# Altium footprint library HardWare.PcbLib: 173 footprints (part 8 of 11)
Each footprint in its own frame and in the unit in brackets; x right, y up, seen from the top. Pads: shape width x height; smd on the part's side, far side on the other; paste and mask are expansions set on the pad; w line width, h text height; cw(c..) or ccw(c..) is an arc to the next point about the centre after c.
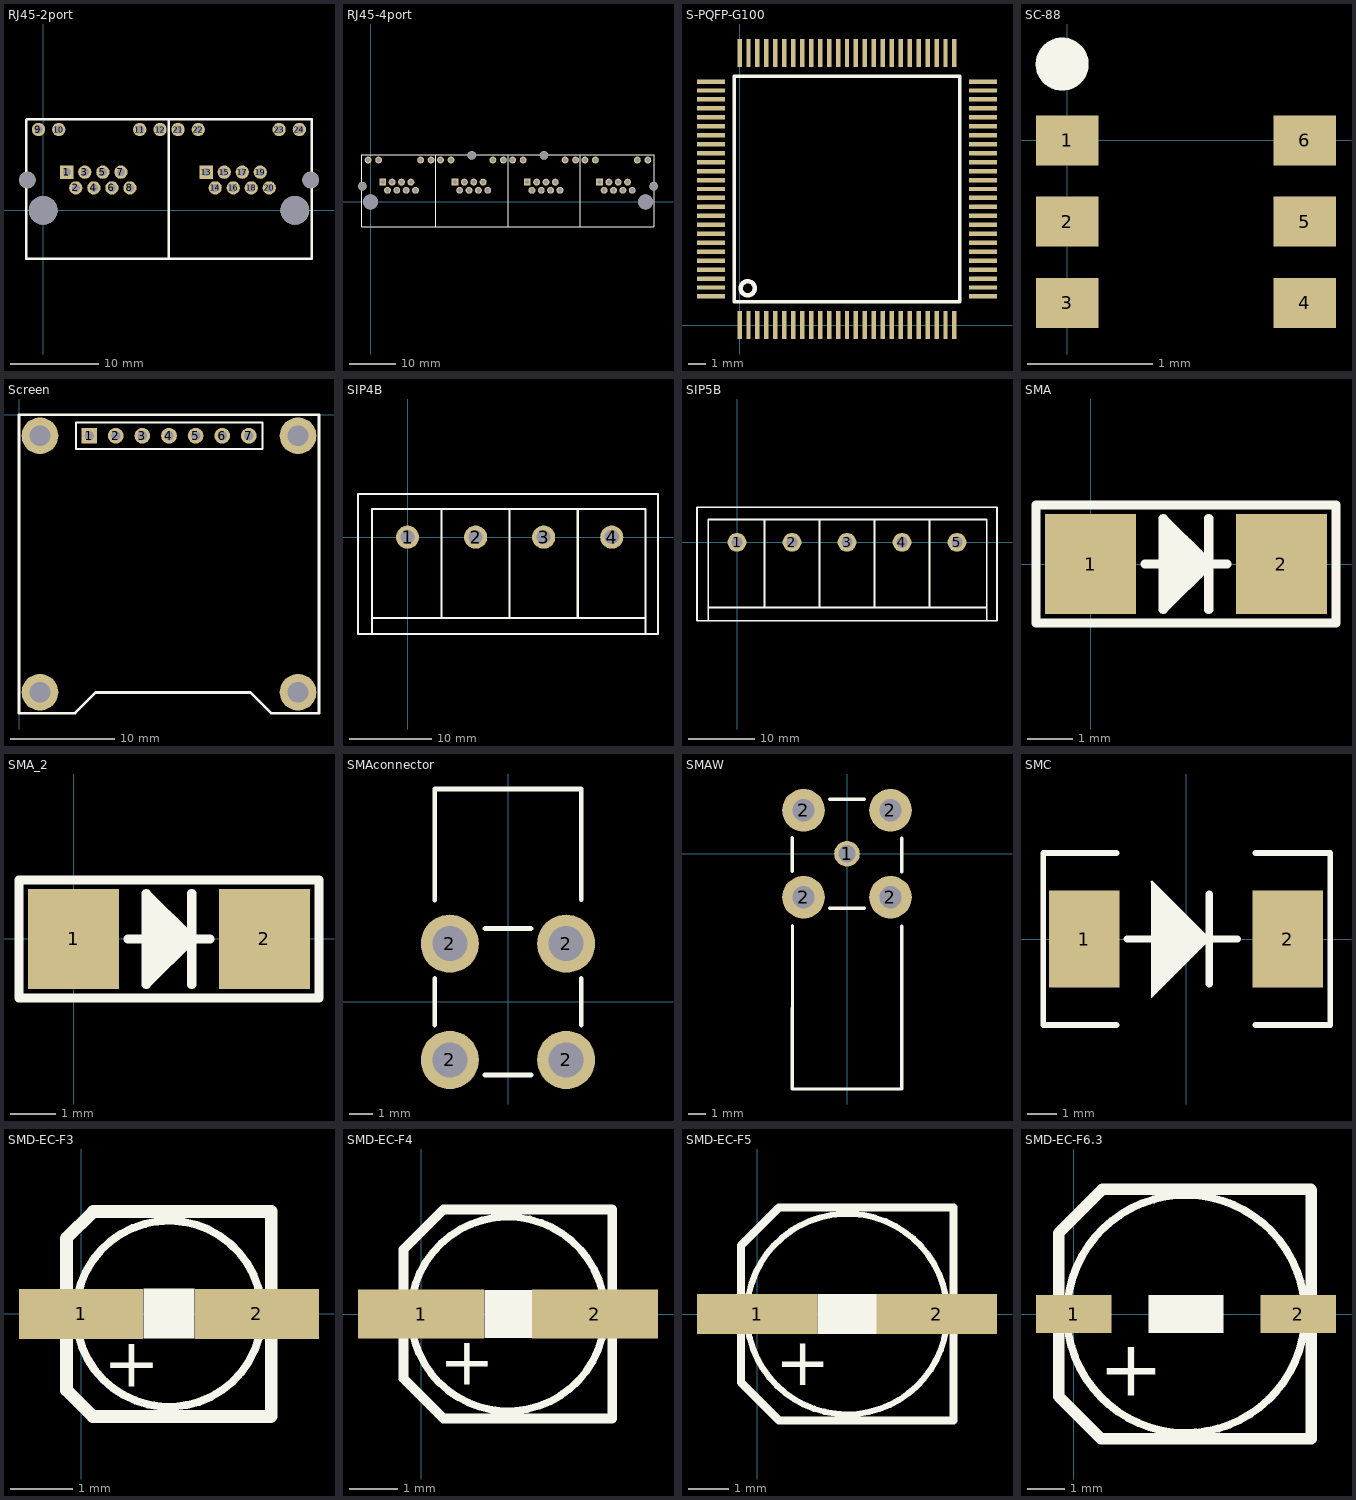
[diagram p7: the footprints below, top view; thin cyan lines are the x and y axes]

## RJ45-2port [mm]
pads (28):
  rect 1.5x1.5 hole 0.9: 1(2.671,4.32) 13(18.427,4.32)
  round 1.5 hole 0.9: 2(3.691,2.54) 3(4.711,4.32) 4(5.731,2.54) 5(6.751,4.32) 6(7.771,2.54) 7(8.791,4.32) 8(9.811,2.54) 9(-0.529,9.14) 10(1.761,9.14) 11(10.926,9.14) 12(13.216,9.14) 14(19.447,2.54) 15(20.467,4.32) 16(21.487,2.54) 17(22.507,4.32) 18(23.527,2.54) 19(24.547,4.32) 20(25.567,2.54) 21(15.246,9.14) 22(17.536,9.14) 23(26.676,9.14) 24(28.966,9.14)
  round 1.9 hole 1.8: ""(-1.78,3.43) ""(30.236,3.43)
  round 3.26 hole 3.25: ""(0,0) ""(28.456,0)
Top Overlay:
  lines w0.254: -1.653,4.193 -1.647,4.193 ; 14.203,-5.46 14.203,10.262 ; -1.905,-5.46 30.361,-5.46 30.361,10.29 -1.88,10.29 -1.905,10.265 -1.905,-5.46

## RJ45-4port [mm]
pads (54):
  rect 1.5x1.5 hole 0.9: 1(2.671,4.32) 13(18.421,4.32) 25(34.171,4.32) 37(49.921,4.32)
  round 1.5 hole 0.9: 2(3.691,2.54) 3(4.711,4.32) 4(5.731,2.54) 5(6.751,4.32) 6(7.771,2.54) 7(8.791,4.32) 8(9.811,2.54) 9(-0.529,9.14) 10(1.761,9.14) 11(10.926,9.14) 12(13.216,9.14) 14(19.441,2.54) 15(20.461,4.32) 16(21.481,2.54) 17(22.501,4.32) 18(23.521,2.54) 19(24.541,4.32) 20(25.561,2.54) 21(15.246,9.14) 22(17.536,9.14) 23(26.676,9.14) 24(28.966,9.14) 26(35.191,2.54) 27(36.211,4.32) 28(37.231,2.54) 29(38.251,4.32) 30(39.271,2.54) 31(40.291,4.32) 32(41.311,2.54) 33(30.992,9.14) 34(33.282,9.14) 35(42.422,9.14) 36(44.712,9.14) 38(50.941,2.54) 39(51.961,4.32) 40(52.981,2.54) 41(54.001,4.32) 42(55.021,2.54) 43(56.041,4.32) 44(57.061,2.54) 45(46.74,9.14) 46(49.03,9.14) 47(58.17,9.14) 48(60.46,9.14)
  round 1.9 hole 1.7: ""(-1.78,3.43) ""(22.07,10.16) ""(37.82,10.16) ""(61.73,3.43)
  round 3.26 hole 3.25: ""(0,0) ""(59.95,0)
Top Overlay:
  lines w0.254: -1.653,4.193 -1.647,4.193 ; 14.203,-5.46 14.203,10.262 ; 29.975,-5.46 29.975,10.236 ; 45.699,-5.46 45.699,10.29 ; 61.798,-5.46 -1.905,-5.46 -1.905,10.265 -1.88,10.29 61.798,10.29 ; 61.855,-5.46 61.855,10.29

## S-PQFP-G100 [mm] "MSP430F5438A"
pads (100):
  rect 0.25x1.55 smd: 1(0,0) 2(0.5,0) 3(1,0) 4(1.5,0) 5(2,0) 6(2.5,0) 7(3,0) 8(3.5,0) 9(4,0) 10(4.5,0) 11(5,0) 12(5.5,0) 13(6,0) 14(6.5,0) 15(7,0) 16(7.5,0) 17(8,0) 18(8.5,0) 19(9,0) 20(9.5,0) 21(10,0) 22(10.5,0) 23(11,0) 24(11.5,0) 25(12,0) 51(12,15.2) 52(11.5,15.2) 53(11,15.2) 54(10.5,15.2) 55(10,15.2) 56(9.5,15.2) 57(9,15.2) 58(8.5,15.2) 59(8,15.2) 60(7.5,15.2) 61(7,15.2) 62(6.5,15.2) 63(6,15.2) 64(5.5,15.2) 65(5,15.2) 66(4.5,15.2) 67(4,15.2) 68(3.5,15.2) 69(3,15.2) 70(2.5,15.2) 71(2,15.2) 72(1.5,15.2) 73(1,15.2) 74(0.5,15.2) 75(0,15.2)
  rect 1.55x0.25 smd: 26(13.6,1.6) 27(13.6,2.1) 28(13.6,2.6) 29(13.6,3.1) 30(13.6,3.6) 31(13.6,4.1) 32(13.6,4.6) 33(13.6,5.1) 34(13.6,5.6) 35(13.6,6.1) 36(13.6,6.6) 37(13.6,7.1) 38(13.6,7.6) 39(13.6,8.1) 40(13.6,8.6) 41(13.6,9.1) 42(13.6,9.6) 43(13.6,10.1) 44(13.6,10.6) 45(13.6,11.1) 46(13.6,11.6) 47(13.6,12.1) 48(13.6,12.6) 49(13.6,13.1) 50(13.6,13.6) 76(-1.6,13.6) 77(-1.6,13.1) 78(-1.6,12.6) 79(-1.6,12.1) 80(-1.6,11.6) 81(-1.6,11.1) 82(-1.6,10.6) 83(-1.6,10.1) 84(-1.6,9.6) 85(-1.6,9.1) 86(-1.6,8.6) 87(-1.6,8.1) 88(-1.6,7.6) 89(-1.6,7.1) 90(-1.6,6.6) 91(-1.6,6.1) 92(-1.6,5.6) 93(-1.6,5.1) 94(-1.6,4.6) 95(-1.6,4.1) 96(-1.6,3.6) 97(-1.6,3.1) 98(-1.6,2.6) 99(-1.6,2.1) 100(-1.6,1.6)
Top Overlay:
  lines w0.2: -0.29,1.31 12.29,1.31 12.29,13.89 -0.29,13.89 -0.29,1.31
  lines w0.254: 0.845,2.131 ccw(c0.457,2.057) 0.852,2.057

## SC-88 [mm]
pads (6):
  rect 0.5x0.4 smd: 1(0,0) 2(0,-0.65) 3(0,-1.3) 4(1.9,-1.3) 5(1.9,-0.65) 6(1.9,0)
Top Overlay:
  lines w0.1: -0.203,0.61 ccw(c-0.041,0.61) 0.122,0.61 ccw(c-0.041,0.61) -0.203,0.61
  lines w0.254: -0.066,0.61 ccw(c-0.041,0.61) -0.062,0.624

## Screen [mm] "0.96 inch"
pads (11):
  rect 1.5x1.5 hole 0.9: 1(6.7,-2)
  round 1.5 hole 0.9: 2(9.24,-2) 3(11.78,-2) 4(14.32,-2) 5(16.86,-2) 6(19.4,-2) 7(21.94,-2)
  round 3.5 hole 2: ""(2,-26.49) ""(2,-2) ""(26.64,-26.49) ""(26.64,-2)
Top Overlay:
  lines w0.2: 5.43,-3.27 23.261,-3.27 23.261,-0.73 5.43,-0.73 5.43,-3.27
  lines w0.254: 0,-0.025 0,-28.49 5.342,-28.49 7.315,-26.518 22.098,-26.518 24.071,-28.49 28.64,-28.49 28.64,0 0,0

## SIP4B [mm]
height 1.75
pads (4):
  round 2.8 hole 1.7: 1(0,0) 2(8.25,0) 3(16.5,0) 4(24.75,0)
Top Overlay:
  lines w0.254: -4.318,-11.75 -4.318,3.429 28.829,3.429 28.829,-11.75 ; -4.318,-9.779 28.829,-9.779 ; 4.125,-9.779 4.125,3.429 ; 12.375,-9.652 12.375,3.429 ; 20.625,-9.779 20.625,3.429 ; -6,-11.75 30.353,-11.75 30.353,5.25 -6,5.25 -6,-11.75

## SIP5B [mm] "大电流接线端子"
height 1.75
pads (5):
  round 2.8 hole 1.7: 1(0,0) 2(8.25,0) 3(16.5,0) 4(24.75,0) 5(33,0)
Top Overlay:
  lines w0.254: -4.318,-11.75 -4.318,3.429 37.465,3.429 37.465,-11.75 ; -4.318,-9.779 37.465,-9.779 ; 4.125,-9.779 4.125,3.429 ; 12.375,-9.652 12.375,3.429 ; 20.625,-9.779 20.625,3.429 ; 28.875,-9.652 28.875,3.429 ; -6,-11.75 39,-11.75 39,5.25 -6,5.25 -6,-11.75

## SMA [mm]
height 1.75
pads (2):
  rect 2x2.2 smd: 1(0,0) 2(4.2,0)
Top Overlay:
  rectangle: 2.061,-0.381 2.219,0.3
  rectangle: 1.827,-0.567 2.033,0.6
  rectangle: 1.601,-0.777 1.823,0.801
  lines w0.2: 1.2,0 1.6,0 ; 1.827,-0.773 1.827,0.773 ; 1.827,0 2.6,0 ; 2.061,-0.439 2.061,0.539 ; 2.291,-0.209 2.291,0.309 ; 2.6,-1 2.6,1 ; 3,0 2.6,0 ; 2.6,0 1.6,-1 1.6,1 2.6,0 ; -1.2,-1.3 5.4,-1.3 5.4,1.3 -1.2,1.3 -1.2,-1.3

## SMA_2 [mm]
pads (2):
  rect 2x2.2 smd: 1(0,0) 2(4.2,0)
Top Overlay:
  rectangle: 1.601,-0.777 1.823,0.8
  rectangle: 1.827,-0.567 2.033,0.6
  rectangle: 2.061,-0.381 2.219,0.3
  lines w0.2: 1.2,0 1.6,0 ; 1.827,-0.773 1.827,0.773 ; 1.827,0 2.6,0 ; 2.061,-0.439 2.061,0.539 ; 2.291,-0.209 2.291,0.309 ; 2.6,-1 2.6,1 ; 3,0 2.6,0 ; 2.6,0 1.6,1 1.6,-1 2.6,0 ; -1.2,-1.3 -1.2,1.3 5.4,1.3 5.4,-1.3 -1.2,-1.3

## SMAconnector [mm]
pads (4):
  round 2.5 hole 1.5: 2(-2.5,-2.5) 2(-2.5,2.5) 2(2.5,-2.5) 2(2.5,2.5)
Top Overlay:
  lines w0.2: -3.15,-1 -3.15,1 ; -3.15,4.359 -3.15,9.15 3.15,9.15 3.15,4.385 ; -1,-3.15 1,-3.15 ; -1,3.15 1,3.15 ; 3.15,-1 3.15,1

## SMAW [mm] "SMA弯头"
pads (5):
  round 1.5 hole 1: 1(0,0)
  round 2.5 hole 1.3: 2(-2.55,-2.55) 2(-2.55,2.55) 2(2.55,-2.55) 2(2.55,2.55)
Top Overlay:
  lines w0.2: -3.2,-13.8 3.2,-13.8 3.2,-4.242 ; -3.2,-13.792 -3.2,-4.216 ; -3.2,-1.041 -3.2,0.94 ; -1,-3.2 1,-3.2 ; -1,3.2 1,3.2 ; 3.2,-1.067 3.2,0.914

## SMC [mm] "DO-214-AB/SMC; 2 C-Bend Leads; Body 7.9 x 5.9 mm, inc. leads (LxW)"
height 2.65
pads (2):
  rect 2.4x3.3 smd: 1(-3.475,0) 2(3.475,0)
Top Overlay:
  region: -1.194,-1.996 -1.194,-2.001 -1.189,-2.009 -1.18,-2.013 -1.17,-2.011 -1.167,-2.007 0.75,-0.09 0.759,-0.081 0.773,-0.06 0.783,-0.037 0.788,-0.013 0.788,0 0.788,0.013 0.783,0.037 0.773,0.061 0.759,0.082 0.75,0.09 0.75,0.091 -1.138,1.979 -1.148,1.989 -1.178,1.99 -1.2,1.971 -1.203,1.942 -1.194,1.93
  lines w0.2: -2.375,-2.935 -4.877,-2.935 -4.877,2.935 -2.375,2.935 ; 2.375,-2.935 4.928,-2.935 4.928,2.935 2.375,2.935
  lines w0.254: -2.007,0 -1.079,0 ; -1.067,1.727 -1.067,-1.727 0.66,0 ; 0.798,0 1.753,0 ; 0.798,-1.535 0.798,0 0.798,1.535
Mechanical 1:
  lines w0.1: -0.2,0 0.2,0 ; 0,-0.2 0,0.2

## SMD-EC-F3 [mm]
pads (2):
  rect 2x0.8 smd: 1(0,0) 2(2.835,0)
Top Overlay:
  rectangle: 1.003,-0.399 1.832,0.407
  lines w0.127: 2.777,0.636 ccw(c1.417,0.003) 2.777,0.634
  lines w0.203: 0.19,1.646 -0.234,1.222 -0.234,-1.229 0.19,-1.653 3.059,-1.653 ; 0.195,1.651 3.066,1.651 3.066,-1.647
  text "+" at 0.361,-1.174 h0.8

## SMD-EC-F4 [mm]
pads (2):
  rect 2.6x1 smd: 1(0,0) 2(3.579,0)
Top Overlay:
  rectangle: 1.302,-0.499 2.279,0.5
  lines w0.152: 3.561,0.924 ccw(c1.787,0) 3.562,0.921
  lines w0.203: 3.936,2.151 0.461,2.151 -0.364,1.325 -0.364,-1.324 0.461,-2.15 3.937,-2.15 3.937,2.15
  text "+" at 0.37,-1.46 h1

## SMD-EC-F5 [mm]
pads (2):
  rect 3x1 smd: 1(0,0) 2(4.477,0)
Top Overlay:
  rectangle: 1.5,-0.5 2.981,0.5
  lines w0.152: 4.412,1.239 ccw(c2.241,0) 4.415,1.235
  lines w0.203: 0.217,-2.33 -0.407,-1.706 ; 4.89,2.656 0.542,2.656 0.541,2.655 -0.407,1.707 -0.407,-1.706 ; 4.891,-2.654 0.542,-2.654 0.542,-2.654 -0.407,-1.706 ; 4.892,-2.654 4.892,2.654
  text "+" at 0.445,-1.777 h1.2

## SMD-EC-F6.3 [mm]
pads (2):
  rect 2x1 smd: 1(0,0) 2(5.941,0)
Top Overlay:
  rectangle: 1.979,-0.496 3.963,0.5
  lines w0.203: 5.9,1.154 cw(c2.969,0.002) 5.9,1.156
  lines w0.305: 6.274,-3.3 0.721,-3.3 -0.402,-2.177 -0.402,2.138 0.76,3.3 0.787,3.3 6.274,3.3 ; 6.283,-3.3 6.283,3.277
  text "+" at 0.663,-2.164 h1.5